# Altium schematic symbol library schmatic.SchLib: 8 symbols
Pins are listed as number, name and electrical type; pins without a type are passive.

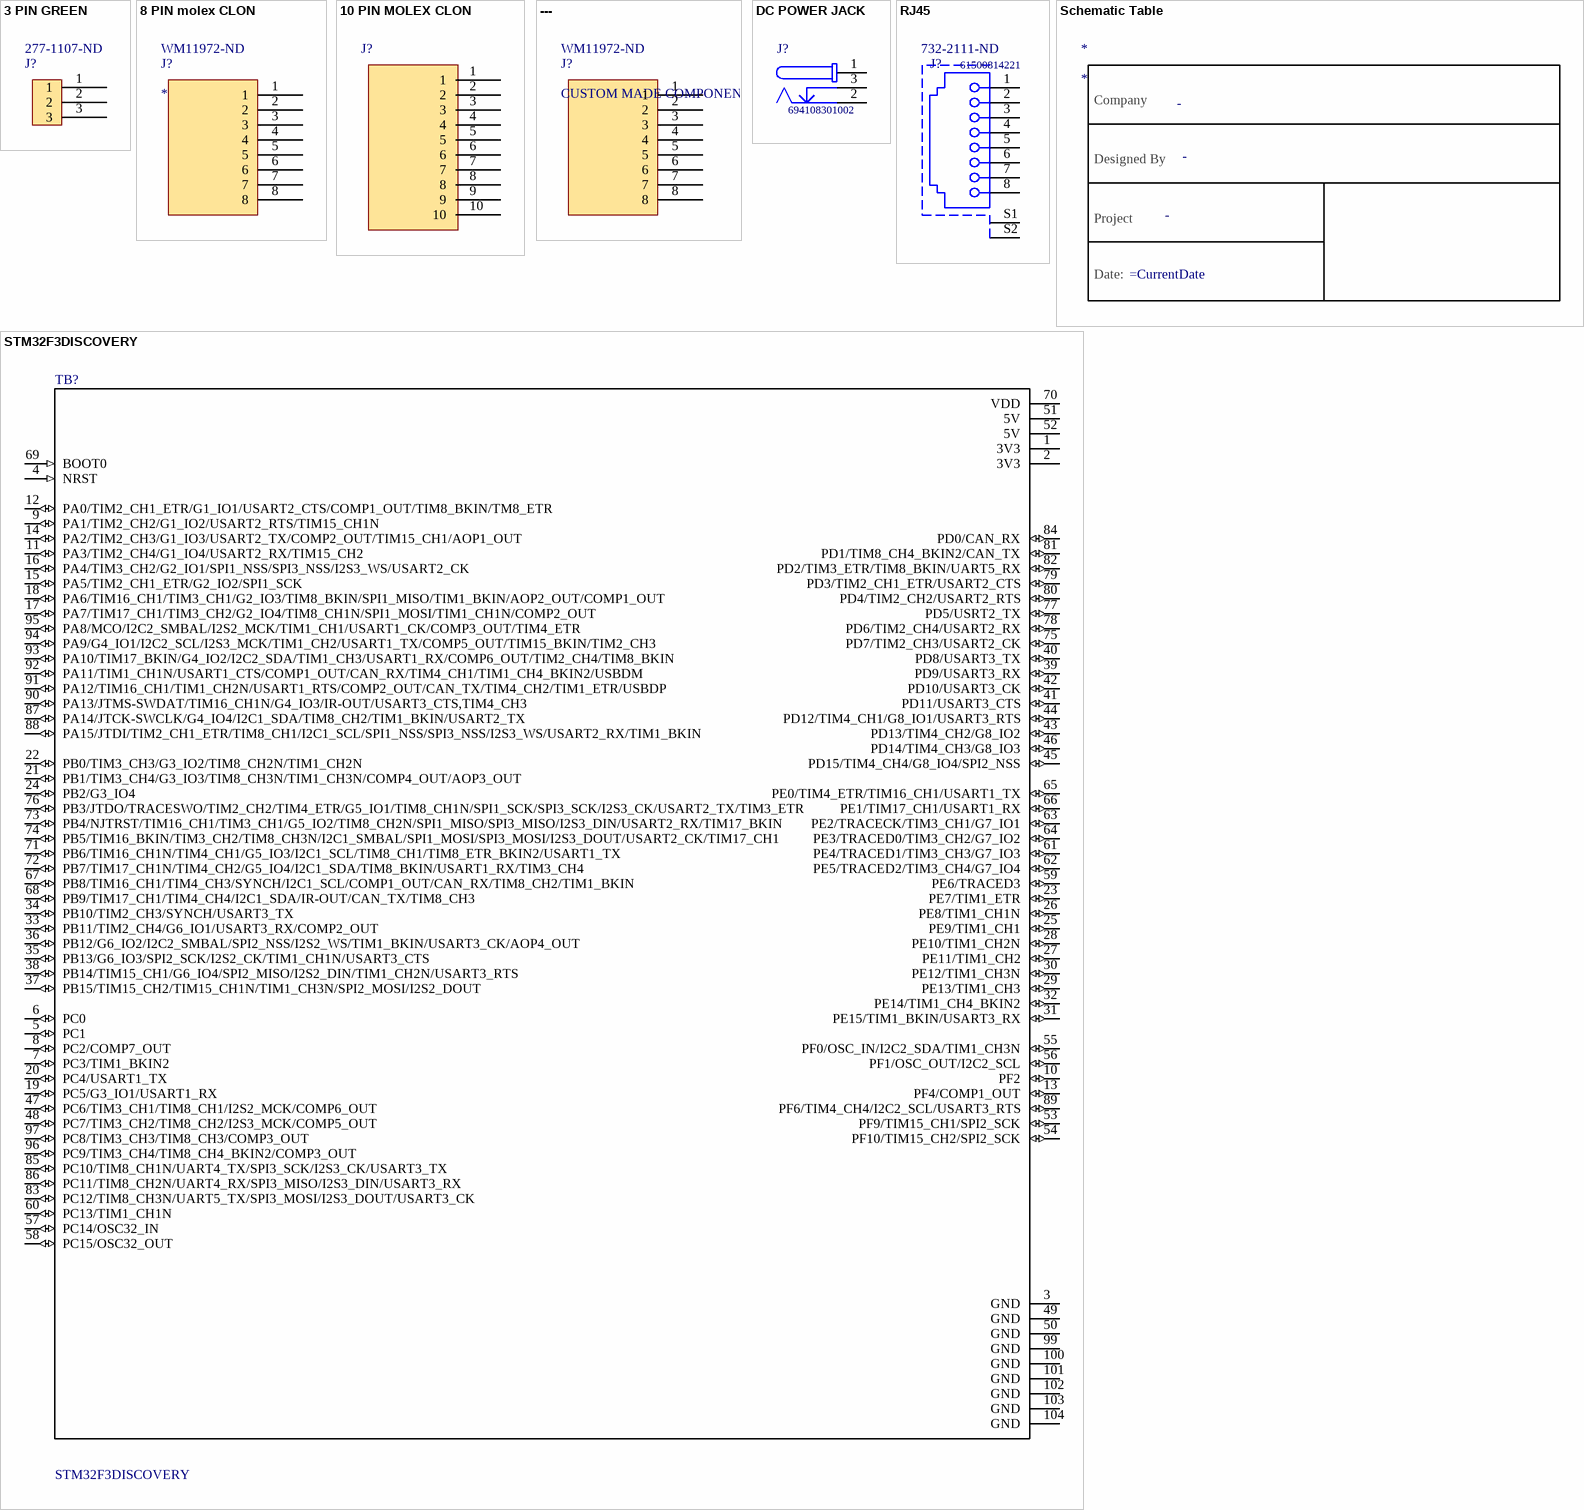
[diagram p0: symbols 3 PIN GREEN to STM32F3DISCOVERY]

## 3 PIN GREEN
designator J?  Supplier Part Number 1: 277-1107-ND
Manufacturer 1: Phoenix Contact; Manufacturer Part Number 1: 1757255; Current Rating: 12A; Voltage Rating: 250V; Voltage Rating (DC): 320V; Number of Poles: 3; Number of Levels: 1; Current: 15A; Voltage: 300V; Connector Type: Plug; Gender: Male; Pitch: 5.08mm; Approvals: UL,CSA,VDE,EN; Supplier 1: Digi-Key; Stock 1: 4025; Pricing 1: 1=1.03000, 10=0.99000, 50=0.94720, 100=0.92130, 250=0.86100, 500=0.79212, 1000=0.73185, 2500=0.69741, 5000=0.65436 (USD); RoHS: Yes; Mount: Through Hole; Weight: 5.396916oz; Color: Grey,Green; Contact Plating: Tin; Housing Color: Green; Housing Material: Polybutylene; Contact Material: Tin; Package Quantity: 50; Packaging: Bulk; Termination: Solder; Max Current Rating: 12A; Number of Rows: 1; Number of Positions: 3; Number of Positions Per Level: 3; Number of Contacts: 3; Orientation: Right Angle; Length: 17.24mm; Height: 12.1mm; Depth: 12mm; Width: 17.16mm; Lead Free: Lead Free; Flammability Rating: UL94 V-0; REACH SVHC: No SVHC; ComponentLink1URL: https://datasheet.ciiva.com/15197/getdatasheetpartid-176351-15197329.pdf?src-supplier=Verical; ComponentLink1Description: https://datasheet.ciiva.com/15197/getdatasheetpartid-176351-15197329.pdf?src-supplier=Verical; ComponentLink2URL: https://datasheet.ciiva.com/16096/1757255-16096404.pdf?src-supplier=Onlinecomponents.com; ComponentLink2Description: https://datasheet.ciiva.com/16096/1757255-16096404.pdf?src-supplier=Onlinecomponents.com; ComponentLink3URL: https://datasheet.ciiva.com/7630/1697152-7630840.pdf?src-supplier=Element14; ComponentLink3Description: https://datasheet.ciiva.com/7630/1697152-7630840.pdf?src-supplier=Element14; ComponentLink4URL: https://datasheet.ciiva.com/795/1757255-795421.pdf?src-supplier=Digi-Key; ComponentLink4Description: https://datasheet.ciiva.com/795/1757255-795421.pdf?src-supplier=Digi-Key; ComponentLink5URL: https://datasheet.ciiva.com/29210/569707-da-01-en-grundgehaeuse-1757255-250-st-29210878.pdf?src-supplier=Conrad; ComponentLink5Description: https://datasheet.ciiva.com/29210/569707-da-01-en-grundgehaeuse-1757255-250-st-29210878.pdf?src-supplier=Conrad
footprint PHOENIX_MSTBA_2,5_3-G-5,08_1757255
pins: 1, 2, 3

## 8 PIN molex CLON
designator J?  Supplier Part Number 1: WM11972-ND
Manufacturer 1: Molex; Manufacturer Part Number 1: 76825-0008; Number of Circuits: 8; Gender: Male; Pitch: 5.7mm; Supplier 1: Digi-Key; Stock 1: 794; Pricing 1: 1=2.83000, 10=2.72000, 25=2.49360, 50=2.38040, 100=2.26700, 250=1.98364, 672=1.92695, 1344=1.64357, 2688=1.53022 (USD); RoHS: Yes; Mount: Through Hole; Number of Pins: 8; Color: Black; Contact Plating: Tin; Contact Material: Copper; Termination: Through Hole; Number of Rows: 2; Orientation: Right Angle; Number of Contacts: 8; REACH SVHC: Unknown; ComponentLink1URL: http://www.alliedelec.com/images/products/datasheets/bm/BrandonData/70717241.pdf?src-supplier=Allied+Electronics; ComponentLink1Description: http://www.alliedelec.com/images/products/datasheets/bm/BrandonData/70717241.pdf?src-supplier=Allied+Electronics; ComponentLink2URL: http://www.farnell.com/datasheets/2216656.pdf?src-supplier=Farnell; ComponentLink2Description: http://www.farnell.com/datasheets/2216656.pdf?src-supplier=Farnell; ComponentLink3URL: http://www.farnell.com/datasheets/1968956.pdf?src-supplier=Element14; ComponentLink3Description: http://www.farnell.com/datasheets/1968956.pdf?src-supplier=Element14; ComponentLink4URL: http://www.farnell.com/datasheets/2001779.pdf?src-supplier=Element14; ComponentLink4Description: http://www.farnell.com/datasheets/2001779.pdf?src-supplier=Element14; ComponentLink5URL: http://www.farnell.com/datasheets/2216656.pdf?src-supplier=Newark; ComponentLink5Description: http://www.farnell.com/datasheets/2216656.pdf?src-supplier=Newark; ComponentLink6URL: https://www.molex.com/pdm_docs/sd/768250008_sd.pdf?src-supplier=Digi-Key; ComponentLink6Description: https://www.molex.com/pdm_docs/sd/768250008_sd.pdf?src-supplier=Digi-Key
footprint 8 PIN MOLEX CLON
pins: 1, 2, 3, 4, 5, 6, 7, 8

## 10 PIN MOLEX CLON
designator J?  (value not drawn)
footprint 10 pin molex
pins: 1, 2, 3, 4, 5, 6, 7, 8, 9, 10

## ---
designator J?, comment CUSTOM MADE COMPONENT  Supplier Part Number 1: WM11972-ND
8 PIN RIGHT ANGLE MOLEX,Richei Street; Manufacturer Part Number 1: 76825-0008; Number of Circuits: 8; Gender: Male; Pitch: 5.7mm; Supplier 1: Digi-Key; Manufacturer 1: Molex; Stock 1: 794; Pricing 1: 1=2.83000, 10=2.72000, 25=2.49360, 50=2.38040, 100=2.26700, 250=1.98364, 672=1.92695, 1344=1.64357, 2688=1.53022 (USD); RoHS: Yes; Mount: Through Hole; Number of Pins: 8; Color: Black; Contact Plating: Tin; Contact Material: Copper; Termination: Through Hole; Number of Rows: 2; Orientation: Right Angle; Number of Contacts: 8; REACH SVHC: Unknown; ComponentLink1URL: http://www.alliedelec.com/images/products/datasheets/bm/BrandonData/70717241.pdf?src-supplier=Allied+Electronics; ComponentLink1Description: http://www.alliedelec.com/images/products/datasheets/bm/BrandonData/70717241.pdf?src-supplier=Allied+Electronics; ComponentLink2URL: http://www.farnell.com/datasheets/2216656.pdf?src-supplier=Farnell; ComponentLink2Description: http://www.farnell.com/datasheets/2216656.pdf?src-supplier=Farnell; ComponentLink3URL: http://www.farnell.com/datasheets/1968956.pdf?src-supplier=Element14; ComponentLink3Description: http://www.farnell.com/datasheets/1968956.pdf?src-supplier=Element14; ComponentLink4URL: http://www.farnell.com/datasheets/2001779.pdf?src-supplier=Element14; ComponentLink4Description: http://www.farnell.com/datasheets/2001779.pdf?src-supplier=Element14; ComponentLink5URL: http://www.farnell.com/datasheets/2216656.pdf?src-supplier=Newark; ComponentLink5Description: http://www.farnell.com/datasheets/2216656.pdf?src-supplier=Newark; ComponentLink6URL: https://www.molex.com/pdm_docs/sd/768250008_sd.pdf?src-supplier=Digi-Key; ComponentLink6Description: https://www.molex.com/pdm_docs/sd/768250008_sd.pdf?src-supplier=Digi-Key
footprint 8 pin molex
pins: 1, 2, 3, 4, 5, 6, 7, 8

## DC POWER JACK
designator J?, comment 694108301002
DC Power Jack Connector WR-DC, Male, Right Angled, THT, 5 A, 24 V; Manufacturer: Wurth Elektronik; Rated Current: 5A; Plug Inner Diameter: 2.55mm; Plug Outer Diameter: 5.5mm; Working Voltage: 24V; Opening Diameter: 6.4mm; Publisher: WurthElektronik; Orientation: RightAngled; Part Number: 694108301002; Manufacturer URL: http://www.we-online.de; Mounting Technology: THT; Packaging: Bag; Datasheet URL: http://katalog.we-online.de/em/datasheet/6941xx301002.pdf; Operating Temperature: -40to85degC; Package Reference: 694108301002; Gender: Male
footprint 694108301002 (DC Power Jack Right Angled(6.4))
pins: 1, 2, 3

## RJ45
designator J?, comment 61500814221  Supplier Part Number 1: 732-2111-ND
Modular Jack WR-MJ, Tab Down, Shielded, Horizontal Entry, THT, 8P8C; Manufacturer: Wurth Elektronik; Manufacturer 1: Wurth Electronics; Withstanding Voltage: 1000VAC; Contact Resistance: 20mOhm; Rated Current: 1.5A; Compliance: Leadfree/RoHS; Port: 1x1; Working Voltage: 120VAC; Connector Type: Jack,RJ45,Socket; Number of Ports: 1; Number of Contacts: 8; Gender: Female; Mating Cycles: 500; Insulation Resistance: 500MR; Voltage Rating (AC): 120V; Entrance: Horizontal; Package Reference: 61500814221; Datasheet URL: https://katalog.we-online.de/em/datasheet/61500814221.pdf; Pin Number: 8P8C; Operating Temperature: -40to85degC; Manufacturer URL: http://www.we-online.de; Packaging: Tray; Publisher: WurthElektronik; Part Number: 61500814221; Mounting Technology: THT; Supplier 1: Digi-Key; Manufacturer Part Number 1: 61500814221; Stock 1: 262; Pricing 1: 1=2.38000, 10=2.33000, 50=2.24000, 100=2.15000, 500=2.06100 (USD); RoHS: Yes; Mount: Through Hole,PCB; Contact Plating: Gold; Contact Material: Copper Alloy,Copper; Housing Material: PBT; Color: Black; Min Operating Temperature: -40°C; Max Operating Temperature: 85°C; Termination: Through Hole; Shielding: Shielded; Number of Positions: 8; Package Quantity: 80; Number of Rows: 1; Direction: Down; Orientation: Right Angle; Current Rating: 1.5A; Length: 13.65mm; Height: 19.95mm; Depth: 21.2mm; Width: 15.88mm; REACH SVHC: Unknown; Flammability Rating: UL94 V-0; ComponentLink1URL: https://datasheet.ciiva.com/1108/76605-1108145.pdf?src-supplier=Element14; ComponentLink1Description: https://datasheet.ciiva.com/1108/76605-1108145.pdf?src-supplier=Element14; ComponentLink2URL: https://datasheet.ciiva.com/4561/61500814221-78459-4561634.pdf?src-supplier=Mouser; ComponentLink2Description: https://datasheet.ciiva.com/4561/61500814221-78459-4561634.pdf?src-supplier=Mouser; ComponentLink3URL: https://datasheet.ciiva.com/686/61500814221-686710.pdf?src-supplier=Digi-Key; ComponentLink3Description: https://datasheet.ciiva.com/686/61500814221-686710.pdf?src-supplier=Digi-Key; ComponentLink4URL: https://datasheet.ciiva.com/11726/0900766b80f88678-11726201.pdf?src-supplier=RSComponents; ComponentLink4Description: https://datasheet.ciiva.com/11726/0900766b80f88678-11726201.pdf?src-supplier=RSComponents; ComponentLink5URL: https://datasheet.ciiva.com/48689/001088220-da-01-en-wr-com-modular-jack-61500814221-48689546.pdf?src-supplier=Conrad; ComponentLink5Description: https://datasheet.ciiva.com/48689/001088220-da-01-en-wr-com-modular-jack-61500814221-48689546.pdf?src-supplier=Conrad
footprint 61500814221 (Modular Jack Horizontal Shielded 8P8C Tab Down)
pins: 1, 2, 3, 4, 5, 6, 7, 8, S1, S2

## Schematic Table
designator *  (graphical)
Project: -; Designed By: -; Company: -
text: Company; Designed By; Project; Date:

## STM32F3DISCOVERY
designator TB?
/ STM32F303VCT6 Discovery STM32F3 ARMÂ® CortexÂ®-M4 MCU 32-Bit Embedded Evaluation Board /; MF: STMicroelectronics; Price: None; MP: STM32F3DISCOVERY; Package: LQFP-100 STMicroelectronics; SnapEDA_Link: https://www.snapeda.com/parts/STM32F3DISCOVERY/STMicroelectronics/view-part/10815/?ref=snap; Availability: Unavailable; Value: *
footprint SHIELD_STM32F3DISCOVERY
pins: 1 3V3 (power), 2 3V3 (power), 3 GND (power), 4 NRST (in), 5 PC1 (io), 6 PC0 (io), 7 PC3/TIM1_BKIN2 (io), 8 PC2/COMP7_OUT (io), 9 PA1/TIM2_CH2/G1_IO2/USART2_RTS/TIM15_CH1N (io), 10 PF2 (io), 11 PA3/TIM2_CH4/G1_IO4/USART2_RX/TIM15_CH2 (io), 12 PA0/TIM2_CH1_ETR/G1_IO1/USART2_CTS/COMP1_OUT/TIM8_BKIN/TM8_ETR (io), 13 PF4/COMP1_OUT (io), 14 PA2/TIM2_CH3/G1_IO3/USART2_TX/COMP2_OUT/TIM15_CH1/AOP1_OUT (io), 15 PA5/TIM2_CH1_ETR/G2_IO2/SPI1_SCK (io), 16 PA4/TIM3_CH2/G2_IO1/SPI1_NSS/SPI3_NSS/I2S3_WS/USART2_CK (io), 17 PA7/TIM17_CH1/TIM3_CH2/G2_IO4/TIM8_CH1N/SPI1_MOSI/TIM1_CH1N/COMP2_OUT (io), 18 PA6/TIM16_CH1/TIM3_CH1/G2_IO3/TIM8_BKIN/SPI1_MISO/TIM1_BKIN/AOP2_OUT/COMP1_OUT (io), 19 PC5/G3_IO1/USART1_RX (io), 20 PC4/USART1_TX (io), 21 PB1/TIM3_CH4/G3_IO3/TIM8_CH3N/TIM1_CH3N/COMP4_OUT/AOP3_OUT (io), 22 PB0/TIM3_CH3/G3_IO2/TIM8_CH2N/TIM1_CH2N (io), 23 PE7/TIM1_ETR (io), 24 PB2/G3_IO4 (io), 25 PE9/TIM1_CH1 (io), 26 PE8/TIM1_CH1N (io), 27 PE11/TIM1_CH2 (io), 28 PE10/TIM1_CH2N (io), 29 PE13/TIM1_CH3 (io), 30 PE12/TIM1_CH3N (io), 31 PE15/TIM1_BKIN/USART3_RX (io), 32 PE14/TIM1_CH4_BKIN2 (io), 33 PB11/TIM2_CH4/G6_IO1/USART3_RX/COMP2_OUT (io), 34 PB10/TIM2_CH3/SYNCH/USART3_TX (io), 35 PB13/G6_IO3/SPI2_SCK/I2S2_CK/TIM1_CH1N/USART3_CTS (io), 36 PB12/G6_IO2/I2C2_SMBAL/SPI2_NSS/I2S2_WS/TIM1_BKIN/USART3_CK/AOP4_OUT (io), 37 PB15/TIM15_CH2/TIM15_CH1N/TIM1_CH3N/SPI2_MOSI/I2S2_DOUT (io), 38 PB14/TIM15_CH1/G6_IO4/SPI2_MISO/I2S2_DIN/TIM1_CH2N/USART3_RTS (io), 39 PD9/USART3_RX (io), 40 PD8/USART3_TX (io), 41 PD11/USART3_CTS (io), 42 PD10/USART3_CK (io), 43 PD13/TIM4_CH2/G8_IO2 (io), 44 PD12/TIM4_CH1/G8_IO1/USART3_RTS (io), 45 PD15/TIM4_CH4/G8_IO4/SPI2_NSS (io), 46 PD14/TIM4_CH3/G8_IO3 (io), 47 PC6/TIM3_CH1/TIM8_CH1/I2S2_MCK/COMP6_OUT (io), 48 PC7/TIM3_CH2/TIM8_CH2/I2S3_MCK/COMP5_OUT (io), 49 GND (power), 50 GND (power), 51 5V (power), 52 5V (power), 53 PF9/TIM15_CH1/SPI2_SCK (io), 54 PF10/TIM15_CH2/SPI2_SCK (io), 55 PF0/OSC_IN/I2C2_SDA/TIM1_CH3N (io), 56 PF1/OSC_OUT/I2C2_SCL (io), 57 PC14/OSC32_IN (io), 58 PC15/OSC32_OUT (io), 59 PE6/TRACED3 (io), 60 PC13/TIM1_CH1N (io), 61 PE4/TRACED1/TIM3_CH3/G7_IO3 (io), 62 PE5/TRACED2/TIM3_CH4/G7_IO4 (io), 63 PE2/TRACECK/TIM3_CH1/G7_IO1 (io), 64 PE3/TRACED0/TIM3_CH2/G7_IO2 (io), 65 PE0/TIM4_ETR/TIM16_CH1/USART1_TX (io), 66 PE1/TIM17_CH1/USART1_RX (io), 67 PB8/TIM16_CH1/TIM4_CH3/SYNCH/I2C1_SCL/COMP1_OUT/CAN_RX/TIM8_CH2/TIM1_BKIN (io), 68 PB9/TIM17_CH1/TIM4_CH4/I2C1_SDA/IR-OUT/CAN_TX/TIM8_CH3 (io), 69 BOOT0 (in), 70 VDD (power), 71 PB6/TIM16_CH1N/TIM4_CH1/G5_IO3/I2C1_SCL/TIM8_CH1/TIM8_ETR_BKIN2/USART1_TX (io), 72 PB7/TIM17_CH1N/TIM4_CH2/G5_IO4/I2C1_SDA/TIM8_BKIN/USART1_RX/TIM3_CH4 (io), 73 PB4/NJTRST/TIM16_CH1/TIM3_CH1/G5_IO2/TIM8_CH2N/SPI1_MISO/SPI3_MISO/I2S3_DIN/USART2_RX/TIM17_BKIN (io), 74 PB5/TIM16_BKIN/TIM3_CH2/TIM8_CH3N/I2C1_SMBAL/SPI1_MOSI/SPI3_MOSI/I2S3_DOUT/USART2_CK/TIM17_CH1 (io), 75 PD7/TIM2_CH3/USART2_CK (io), 76 PB3/JTDO/TRACESWO/TIM2_CH2/TIM4_ETR/G5_IO1/TIM8_CH1N/SPI1_SCK/SPI3_SCK/I2S3_CK/USART2_TX/TIM3_ETR (io), 77 PD5/USRT2_TX (io), 78 PD6/TIM2_CH4/USART2_RX (io), 79 PD3/TIM2_CH1_ETR/USART2_CTS (io), 80 PD4/TIM2_CH2/USART2_RTS (io), 81 PD1/TIM8_CH4_BKIN2/CAN_TX (io), 82 PD2/TIM3_ETR/TIM8_BKIN/UART5_RX (io), 83 PC12/TIM8_CH3N/UART5_TX/SPI3_MOSI/I2S3_DOUT/USART3_CK (io), 84 PD0/CAN_RX (io), 85 PC10/TIM8_CH1N/UART4_TX/SPI3_SCK/I2S3_CK/USART3_TX (io), 86 PC11/TIM8_CH2N/UART4_RX/SPI3_MISO/I2S3_DIN/USART3_RX (io), 87 PA14/JTCK-SWCLK/G4_IO4/I2C1_SDA/TIM8_CH2/TIM1_BKIN/USART2_TX (io), 88 PA15/JTDI/TIM2_CH1_ETR/TIM8_CH1/I2C1_SCL/SPI1_NSS/SPI3_NSS/I2S3_WS/USART2_RX/TIM1_BKIN (io), 89 PF6/TIM4_CH4/I2C2_SCL/USART3_RTS (io), 90 PA13/JTMS-SWDAT/TIM16_CH1N/G4_IO3/IR-OUT/USART3_CTS,TIM4_CH3 (io), 91 PA12/TIM16_CH1/TIM1_CH2N/USART1_RTS/COMP2_OUT/CAN_TX/TIM4_CH2/TIM1_ETR/USBDP (io), 92 PA11/TIM1_CH1N/USART1_CTS/COMP1_OUT/CAN_RX/TIM4_CH1/TIM1_CH4_BKIN2/USBDM (io), 93 PA10/TIM17_BKIN/G4_IO2/I2C2_SDA/TIM1_CH3/USART1_RX/COMP6_OUT/TIM2_CH4/TIM8_BKIN (io), 94 PA9/G4_IO1/I2C2_SCL/I2S3_MCK/TIM1_CH2/USART1_TX/COMP5_OUT/TIM15_BKIN/TIM2_CH3 (io), 95 PA8/MCO/I2C2_SMBAL/I2S2_MCK/TIM1_CH1/USART1_CK/COMP3_OUT/TIM4_ETR (io), 96 PC9/TIM3_CH4/TIM8_CH4_BKIN2/COMP3_OUT (io), 97 PC8/TIM3_CH3/TIM8_CH3/COMP3_OUT (io), 99 GND (power), 100 GND (power), 101 GND (power), 102 GND (power), 103 GND (power), 104 GND (power)